# EAGLE library part FM93C66 (library Traficon)
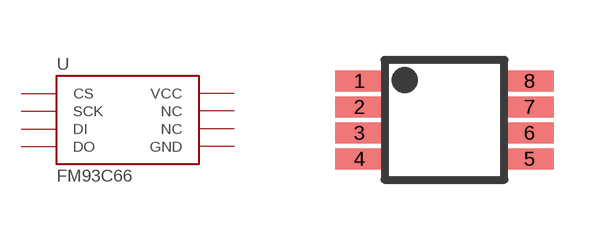
[diagram p201: symbol with the pads of TSSOP8@1; footprint TSSOP8@1]

Designator prefix U

## FM93C66  [TSSOP8@1]
1  CS
2  SCK
3  DI
4  DO
5  GND
6  NC
7  NC
8  VCC

## Footprint TSSOP8@1 (pad centres in mm)
Plastic Small Outline
smd 1.2 x 0.525: 1 -2.125,0.975; 2 -2.125,0.325; 3 -2.125,-0.325; 4 -2.125,-0.975; 5 2.125,-0.975; 6 2.125,-0.325; 7 2.125,0.325; 8 2.125,0.975